# Altium footprint library CAPC3216X090.PcbLib: 3 footprints
Each footprint in its own frame and in the unit in brackets; x right, y up, seen from the top. Pads: shape width x height; smd on the part's side, far side on the other; paste and mask are expansions set on the pad; w line width, h text height; cw(c..) or ccw(c..) is an arc to the next point about the centre after c.
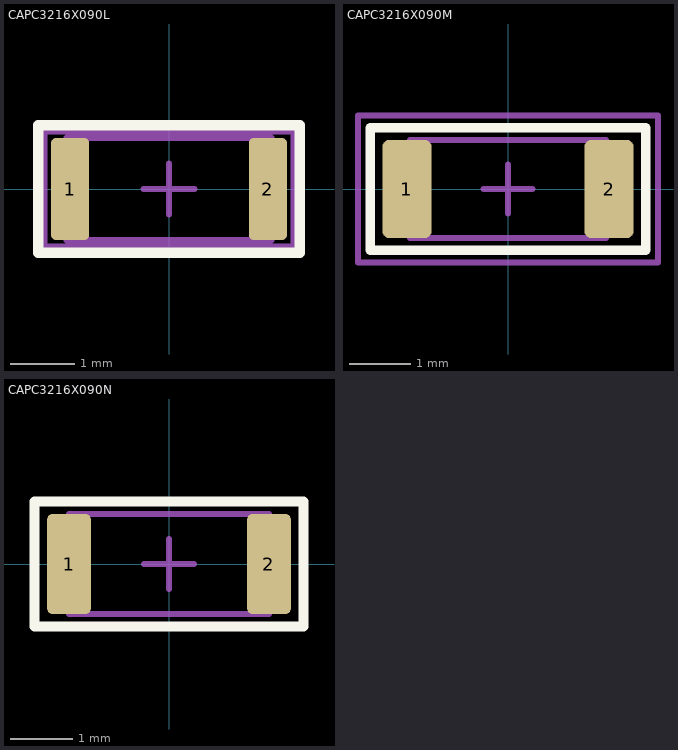
[diagram p0: the footprints below, top view; thin cyan lines are the x and y axes]

## CAPC3216X090L [mm] "Capacitors, Chip, Non-polarized"
height 1
pads (2):
  rrect25% 0.6x1.6 smd: 1(-1.55,0) 2(1.55,0)
Top Overlay:
  lines w0.16: -2.05,-1 2.05,-1 2.05,1 -2.05,1 -2.05,-1
Top Component Center:
  lines w0.1: -0.4,0 0.4,0 ; 0,-0.4 0,0.4
Top Courtyard:
  lines w0.1: -1.95,-0.9 1.95,-0.9 1.95,0.9 -1.95,0.9 -1.95,-0.9
Top Assembly:
  lines w0.1: -1.6,-0.8 1.6,-0.8 1.6,0.8 -1.6,0.8 -1.6,-0.8
  text ".Designator" at 0,0 h1
3D body "CAPC3216X090L.STEP": height 0.9, standoff 0, extent -1.6,-0.8 1.6,0.8

## CAPC3216X090M [mm] "Capacitors, Chip, Non-polarized"
height 1
pads (2):
  rrect25% 0.8x1.6 smd: 1(-1.65,0) 2(1.65,0)
Top Overlay:
  lines w0.16: -2.25,-1 2.25,-1 2.25,1 -2.25,1 -2.25,-1
Top Component Center:
  lines w0.1: -0.4,0 0.4,0 ; 0,-0.4 0,0.4
Top Courtyard:
  lines w0.1: -2.45,-1.2 2.45,-1.2 2.45,1.2 -2.45,1.2 -2.45,-1.2
Top Assembly:
  lines w0.1: -1.6,-0.8 1.6,-0.8 1.6,0.8 -1.6,0.8 -1.6,-0.8
  text ".Designator" at 0,0 h1
3D body "CAPC3216X090M.STEP": height 0.9, standoff 0, extent -1.6,-0.8 1.6,0.8

## CAPC3216X090N [mm] "Capacitors, Chip, Non-polarized"
height 1
pads (2):
  rrect25% 0.7x1.6 smd: 1(-1.6,0) 2(1.6,0)
Top Overlay:
  lines w0.16: -2.15,-1 2.15,-1 2.15,1 -2.15,1 -2.15,-1
Top Component Center:
  lines w0.1: -0.4,0 0.4,0 ; 0,-0.4 0,0.4
Top Courtyard:
  lines w0.1: -2.15,-1 2.15,-1 2.15,1 -2.15,1 -2.15,-1
Top Assembly:
  lines w0.1: -1.6,-0.8 1.6,-0.8 1.6,0.8 -1.6,0.8 -1.6,-0.8
  text ".Designator" at 0,0 h1
3D body "CAPC3216X090N.STEP": height 0.9, standoff 0, extent -1.6,-0.8 1.6,0.8